# EAGLE library part MAX4239 (library mcp3424)
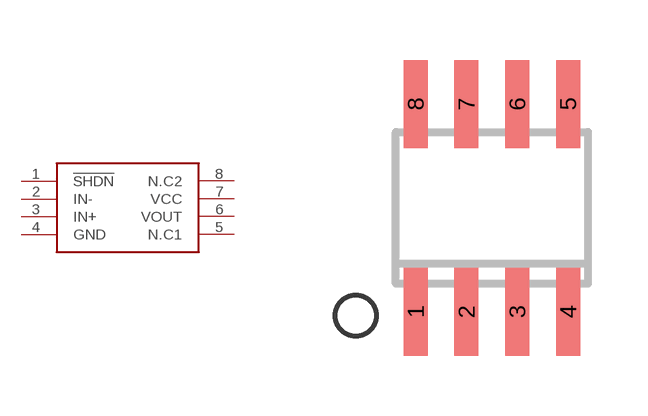
[diagram p2: symbol with the pads of SO8; footprint SO8]

Designator prefix -

## MAX4239  [SO8]
1  !SHDN
2  IN-
3  IN+
4  GND
5  N.C1
6  VOUT
7  VCC
8  N.C2

## Footprint SO8 (pad centres in mm)
SMALL OUTLINE INTEGRATED CIRCUIT
smd 0.6 x 2.2: 1 -1.905,-2.6; 2 -0.635,-2.6; 3 0.635,-2.6; 4 1.905,-2.6; 5 1.905,2.6; 6 0.635,2.6; 7 -0.635,2.6; 8 -1.905,2.6